# EAGLE library part SD-22-03-2031 (library WALL-E_Parts)
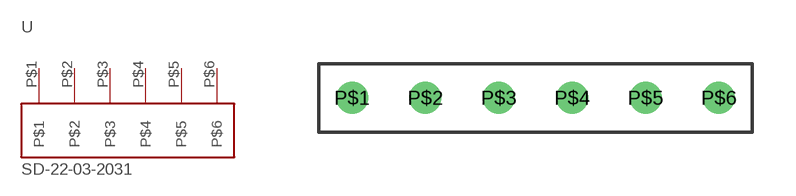
[diagram p0: symbol with the pads of 22-03-2031; footprint 22-03-2031]

Designator prefix -

## SD-22-03-2031  [22-03-2031]
P$1  P$1
P$2  P$2
P$3  P$3
P$4  P$4
P$5  P$5
P$6  P$6

## Footprint 22-03-2031 (pad centres in mm)
drill 0.6 pad 1.02: P$1 1.15,1.18; P$2 3.69,1.18; P$3 6.23,1.18; P$4 8.77,1.18; P$5 11.31,1.18; P$6 13.85,1.18